# Altium footprint library Gan_cuk converter.PcbLib: 51 footprints (part 3 of 4)
Each footprint in its own frame and in the unit in brackets; x right, y up, seen from the top. Pads: shape width x height; smd on the part's side, far side on the other; paste and mask are expansions set on the pad; w line width, h text height; cw(c..) or ccw(c..) is an arc to the next point about the centre after c.
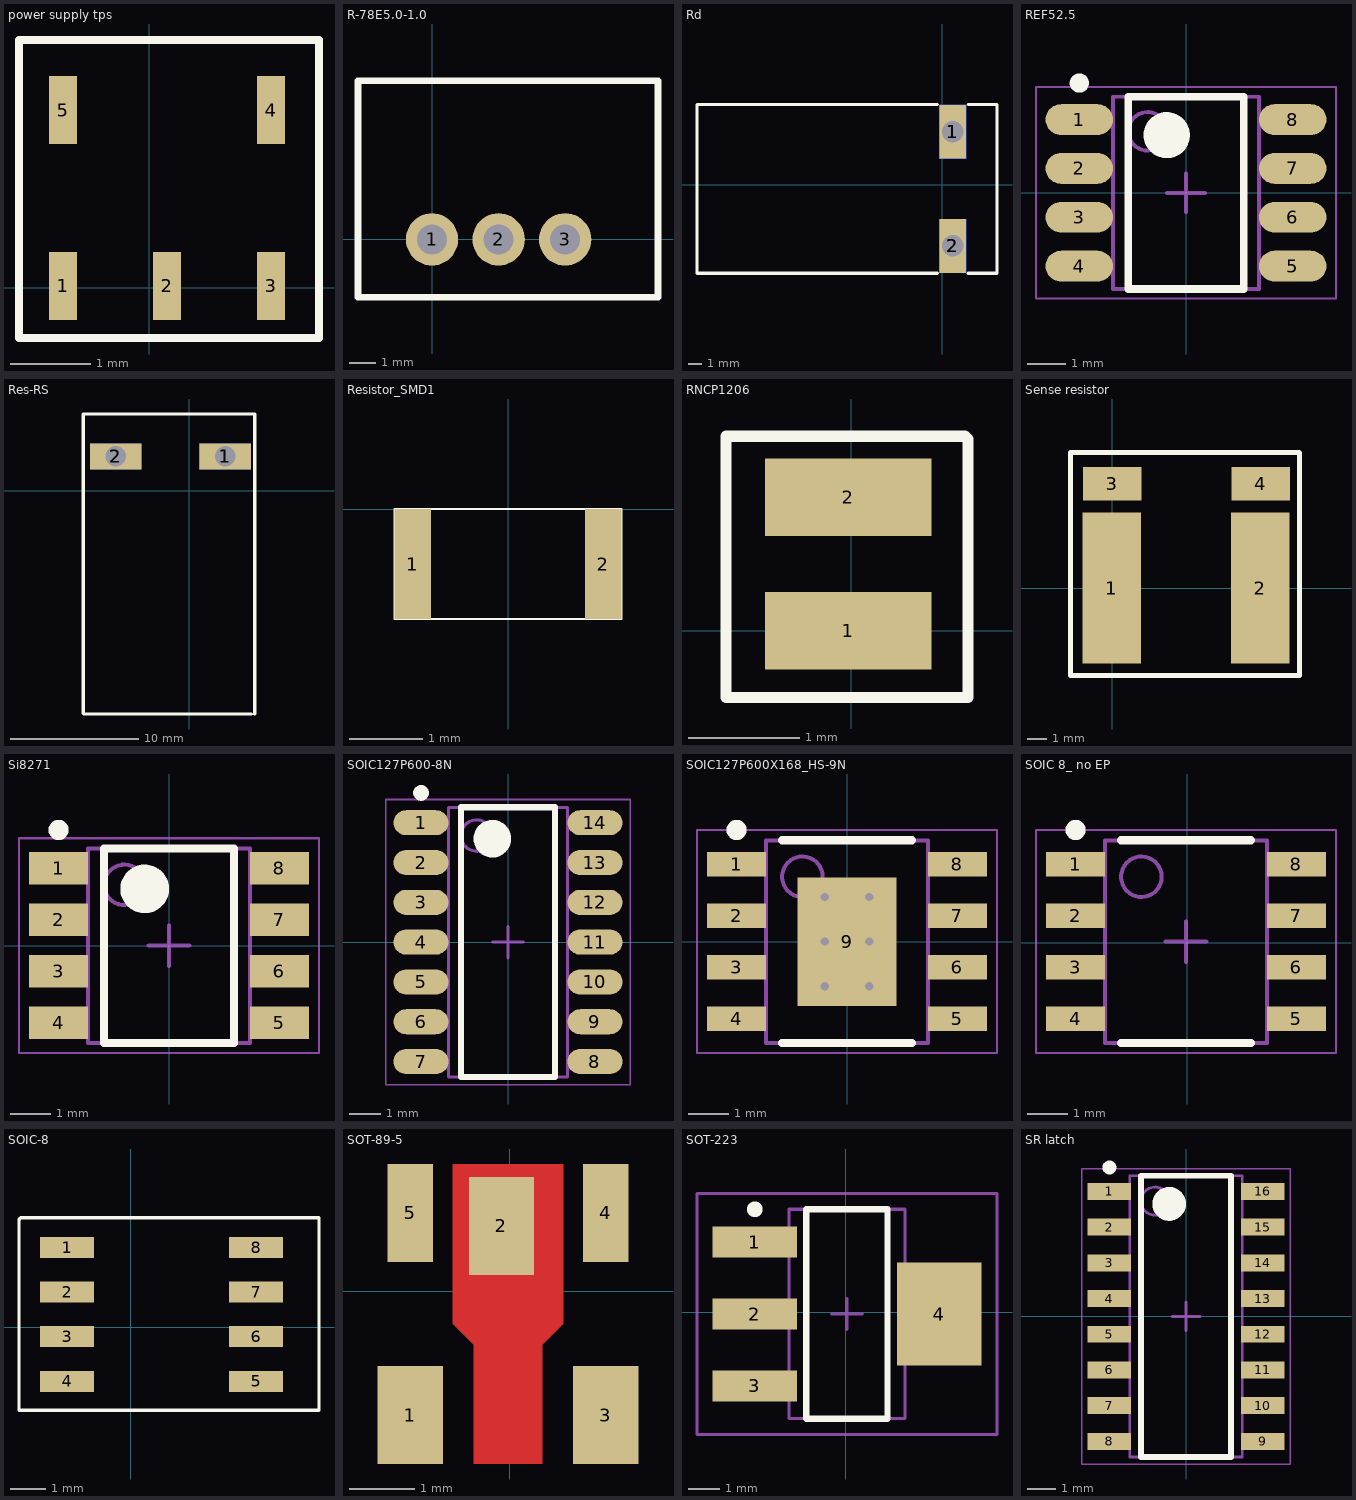
[diagram p2: the footprints below, top view; thin cyan lines are the x and y axes]

## power supply tps [mm]
pads (5):
  rect 0.35x0.85 smd: 1(-1.075,0.025) 2(0.225,0.025) 3(1.525,0.025) 4(1.525,2.225) 5(-1.075,2.225)
Top Overlay:
  lines w0.1: -1.625,-0.625 2.125,-0.625 2.125,3.1 -1.625,3.1 -1.625,-0.625

## R-78E5.0-1.0 [mm] "R-78E5.0-1.0"
height 10.4
pads (3):
  round 2 hole 1.15: 1(0,0) 2(2.54,0) 3(5.08,0)
Top Overlay:
  lines w0.254: -2.825,6.05 -2.825,-2.2 8.625,-2.2 8.625,6.05 -2.75,6.05

## Rd [mm]
pads (6):
  rect 2x2 hole 1.6: 1(0.789,3.937) 2(0.789,-4.572)
  rect 2x4 smd far side: 1(0.789,3.937) 2(0.789,-4.572)
  rect 2x4 smd: 1(0.789,3.937) 2(0.789,-4.572)
Top Overlay:
  lines w0.1: -18.269,-6.625 -18.248,-6.604
  lines w0.254: -18.269,-6.625 -18.269,5.969 -2.513,5.969 -0.354,5.969 ; -18.248,-6.604 -2.513,-6.604 -0.354,-6.604 ; 1.932,-6.604 4.091,-6.604 4.091,5.969 1.932,5.969

## REF52.5 [mm]
height 1.75
pads (8):
  oval 1.75x0.8 smd: 1(-2.775,1.905) 2(-2.775,0.635) 3(-2.775,-0.635) 4(-2.775,-1.905) 5(2.775,-1.905) 6(2.775,-0.635) 7(2.775,0.635) 8(2.775,1.905)
Top Overlay:
  circle w0.6: c-0.5,1.5 r0.3
  circle w0.25: c-2.775,2.855 r0.125
  lines w0.2: -1.5,-2.5 1.5,-2.5 1.5,2.5 -1.5,2.5 -1.5,-2.5
Mechanical 13:
  circle w0.1: c-1,1.6 r0.5
  lines w0.1: -1.9,-2.5 1.9,-2.5 1.9,2.5 -1.9,2.5 -1.9,-2.5
Mechanical 15:
  lines w0.05: -3.9,-2.75 3.9,-2.75 3.9,2.75 -3.9,2.75 -3.9,-2.75
  lines w0.1: -0.5,0 0.5,0 ; 0,-0.5 0,0.5
3D body: height 1.75, standoff 0.25, extent -1.9,-2.5 1.9,2.5

## Res-RS [mm]
pads (6):
  rect 2x2 hole 1.6: 1(2.794,2.667) 2(-5.715,2.667)
  rect 4x2 smd: 1(2.794,2.667) 2(-5.715,2.667)
  rect 4x2 smd far side: 1(2.794,2.667) 2(-5.715,2.667)
Top Overlay:
  lines w0.1: -8.25,-17.325 -8.2,-17.375 ; 4.825,-17.375 4.826,-17.374 ; 4.827,-17.375 5.075,-17.375 5.1,-17.35
  lines w0.254: -8.25,-17.325 -8.25,1.675 -8.25,5.969 5.1,5.969 5.1,3.81 5.1,-17.35 ; -8.2,-17.375 -7.744,-17.375 -1.1,-17.375 4.825,-17.375

## Resistor_SMD1 [mm] "RES SMD 392 OHM 1% 1/2W 1206"
pads (2):
  rect 0.5x1.5 smd: 1(-1.3,-0.75) 2(1.3,-0.75)
Top Overlay:
  lines w0.025: 0,0 -1.55,0 ; -1.55,0 1.55,0 1.55,-1.5 -1.55,-1.5 -1.55,0

## RNCP1206 [mm]
pads (2):
  rect 1.5x0.7 smd: 1(-0.025,0) 2(-0.025,1.2)
Top Overlay:
  lines w0.1: -1.125,-0.6 1.05,-0.6 1.05,1.725 1.025,1.75 -1.125,1.75 -1.125,-0.6

## Sense resistor [mm] "WSL3637"
height 0.65
pads (4):
  rect 2.95x7.62 smd: 1(-0.025,0) 2(7.47,0)
  rect 2.95x1.68 smd: 3(0,5.26) 4(7.495,5.26)
Top Overlay:
  lines w0.254: -2.1,-4.4 -2.1,6.825 9.425,6.825 9.45,6.8 9.45,-4.4 -2.1,-4.4

## Si8271 [mm]
height 1.75
pads (8):
  rect 1.45x0.8 smd: 1(-2.725,1.905) 2(-2.725,0.635) 3(-2.725,-0.635) 4(-2.725,-1.905) 5(2.725,-1.905) 6(2.725,-0.635) 7(2.725,0.635) 8(2.725,1.905)
Top Overlay:
  circle w0.6: c-0.6,1.4 r0.3
  circle w0.25: c-2.725,2.855 r0.125
  lines w0.2: -1.6,-2.4 1.6,-2.4 1.6,2.4 -1.6,2.4 -1.6,-2.4
Mechanical 13:
  circle w0.1: c-1.1,1.5 r0.5
  lines w0.1: -2,-2.4 2,-2.4 2,2.4 -2,2.4 -2,-2.4
Mechanical 15:
  lines w0.05: -3.7,-2.65 3.7,-2.65 3.7,2.65 -3.7,2.65 -3.7,-2.65
  lines w0.1: -0.5,0 0.5,0 ; 0,-0.5 0,0.5
3D body: height 1.75, standoff 0.1, extent -2,-2.4 2,2.4

## SOIC127P600-8N [mm]
height 1.75
pads (14):
  oval 1.75x0.8 smd: 1(-2.775,3.81) 2(-2.775,2.54) 3(-2.775,1.27) 4(-2.775,0) 5(-2.775,-1.27) 6(-2.775,-2.54) 7(-2.775,-3.81) 8(2.775,-3.81) 9(2.775,-2.54) 10(2.775,-1.27) 11(2.775,0) 12(2.775,1.27) 13(2.775,2.54) 14(2.775,3.81)
Top Overlay:
  circle w0.6: c-0.5,3.3 r0.3
  circle w0.25: c-2.775,4.76 r0.125
  lines w0.2: -1.5,-4.3 1.5,-4.3 1.5,4.3 -1.5,4.3 -1.5,-4.3
Mechanical 13:
  circle w0.1: c-1,3.4 r0.5
  lines w0.1: -1.9,-4.3 1.9,-4.3 1.9,4.3 -1.9,4.3 -1.9,-4.3
Mechanical 15:
  lines w0.05: -3.9,-4.55 3.9,-4.55 3.9,4.55 -3.9,4.55 -3.9,-4.55
  lines w0.1: -0.5,0 0.5,0 ; 0,-0.5 0,0.5
3D body: height 1.75, standoff 0.1, extent -1.9,-4.3 1.9,4.3

## SOIC127P600X168_HS-9N [mm] "MAX9919NASA+"
height 1.68
pads (9):
  rect 1.45x0.6 smd: 1(-2.725,1.905) 2(-2.725,0.635) 3(-2.725,-0.635) 4(-2.725,-1.905) 5(2.725,-1.905) 6(2.725,-0.635) 7(2.725,0.635) 8(2.725,1.905)
  rect 2.43x3.17 smd: 9(0,0)
via 0.55,-1.1 diameter 0.5 hole 0.2
via -0.55,-1.1 diameter 0.5 hole 0.2
via 0.55,0 diameter 0.5 hole 0.2
via -0.55,0 diameter 0.5 hole 0.2
via 0.55,1.1 diameter 0.5 hole 0.2
via -0.55,1.1 diameter 0.5 hole 0.2
Top Overlay:
  circle w0.25: c-2.725,2.755 r0.125
  lines w0.2: -1.6,-2.5 1.6,-2.5 ; -1.6,2.5 1.6,2.5
Mechanical 13:
  circle w0.1: c-1.1,1.6 r0.5
  lines w0.1: -2,-2.5 2,-2.5 2,2.5 -2,2.5 -2,-2.5
Mechanical 15:
  lines w0.05: -3.7,-2.75 3.7,-2.75 3.7,2.75 -3.7,2.75 -3.7,-2.75
  lines w0.1: -0.5,0 0.5,0 ; 0,-0.5 0,0.5
3D body: height 1.68, standoff 0.1, extent -2,-2.5 2,2.5

## SOIC 8_ no EP [mm]
pads (8):
  rect 1.45x0.6 smd: 1(-2.75,1.93) 2(-2.75,0.66) 3(-2.75,-0.61) 4(-2.75,-1.88) 5(2.7,-1.88) 6(2.7,-0.61) 7(2.7,0.66) 8(2.7,1.93)
Top Overlay:
  circle w0.25: c-2.75,2.78 r0.125
  lines w0.2: -1.625,-2.475 1.575,-2.475 ; -1.625,2.525 1.575,2.525
Mechanical 13:
  circle w0.1: c-1.125,1.625 r0.5
  lines w0.1: -2.025,-2.475 -2.025,2.525 1.975,2.525 1.975,-2.475 -2.025,-2.475
Mechanical 15:
  lines w0.05: -3.725,-2.725 -3.725,2.775 3.675,2.775 3.675,-2.725 -3.725,-2.725
  lines w0.1: -0.525,0.025 0.475,0.025 ; -0.025,-0.475 -0.025,0.525
3D body: height 1.68, standoff 0.1, extent -2.025,-2.475 1.975,2.525

## SOIC-8 [mm]
pads (8):
  rect 1.55x0.6 smd: 1(-1.825,2.275) 2(-1.825,1) 3(-1.825,-0.275) 4(-1.825,-1.55) 5(3.575,-1.55) 6(3.575,-0.275) 7(3.575,1) 8(3.575,2.275)
Top Overlay:
  lines w0.1: -3.2,-2.375 -3.2,3.075 -3.15,3.125 5.375,3.125 5.375,-2.375 -3.2,-2.375

## SOT-89-5 [mm]
pads (5):
  rect 1x1.5 smd: 1(-1.525,-1.9) 2(-0.125,1) 3(1.475,-1.9)
  rect 0.7x1.5 smd: 4(1.475,1.2) 5(-1.525,1.2)
Top Layer:
  region: 0.5,-2.65 -0.55,-2.65 -0.55,-0.825 -0.875,-0.5 -0.875,1.95 0.825,1.95 0.825,-0.5 0.5,-0.825

## SOT-223 [mm]
pads (4):
  rect 2.7x1 smd: 1(-2.914,2.248) 2(-2.914,-0.052) 3(-2.914,-2.352)
  rect 2.7x3.3 smd: 4(2.986,-0.052)
Top Overlay:
  circle w0.25: c-2.914,3.298 r0.125
  lines w0.2: -1.264,-3.402 1.336,-3.402 1.336,3.298 -1.264,3.298 -1.264,-3.402
Mechanical 13:
  lines w0.1: -1.814,-3.402 1.886,-3.402 1.886,3.298 -1.814,3.298 -1.814,-3.402
Mechanical 15:
  lines w0.1: -0.464,-0.052 0.536,-0.052 ; 0.036,-0.552 0.036,0.448 ; -4.764,-3.902 4.836,-3.902 4.836,3.798 -4.764,3.798 -4.764,-3.902
3D body: height 1.8, standoff 0, extent -1.814,-3.402 1.886,3.298

## SR latch [mm] "SOIC 16"
height 1.68
pads (16):
  rect 1.55x0.6 smd: 1(-2.725,4.445) 2(-2.725,3.175) 3(-2.725,1.905) 4(-2.725,0.635) 5(-2.725,-0.635) 6(-2.725,-1.905) 7(-2.725,-3.175) 8(-2.725,-4.445) 9(2.725,-4.445) 10(2.725,-3.175) 11(2.725,-1.905) 12(2.725,-0.635) 13(2.725,0.635) 14(2.725,1.905) 15(2.725,3.175) 16(2.725,4.445)
Top Overlay:
  circle w0.25: c-2.725,5.295 r0.125
  circle w0.6: c-0.6,4 r0.3
  lines w0.2: -1.6,-5 -1.6,5 1.6,5 1.6,-5 -1.6,-5
Mechanical 13:
  circle w0.1: c-1.1,4.1 r0.5
  lines w0.1: -2,-5 -2,5 2,5 2,-5 -2,-5
Mechanical 15:
  lines w0.05: -3.7,-5.25 -3.7,5.25 3.7,5.25 3.7,-5.25 -3.7,-5.25
  lines w0.1: -0.5,0 0.5,0 ; 0,-0.5 0,0.5
3D body: height 1.68, standoff 0.1, extent -2,-5 2,5